# Altium footprint library MPU-9250.PcbLib: 1 footprints
Each footprint in its own frame and in the unit in brackets; x right, y up, seen from the top. Pads: shape width x height; smd on the part's side, far side on the other; paste and mask are expansions set on the pad; w line width, h text height; cw(c..) or ccw(c..) is an arc to the next point about the centre after c.
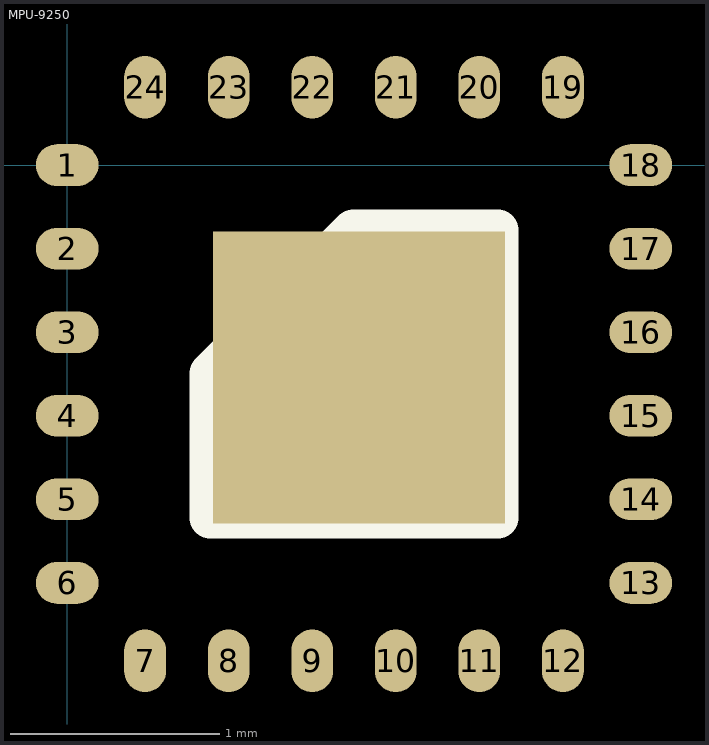
[diagram p0: the footprint, top view; thin cyan lines are the x and y axes]

## MPU-9250 [mm]
pads (25):
  oval 0.3x0.2 smd: 1(0,0) 2(0,-0.4) 3(0,-0.8) 4(0,-1.2) 5(0,-1.6) 6(0,-2) 13(2.746,-2) 14(2.746,-1.6) 15(2.746,-1.2) 16(2.746,-0.8) 17(2.746,-0.4) 18(2.746,0)
  oval 0.2x0.3 smd: 7(0.373,-2.373) 8(0.773,-2.373) 9(1.173,-2.373) 10(1.573,-2.373) 11(1.973,-2.373) 12(2.373,-2.373) 19(2.373,0.373) 20(1.973,0.373) 21(1.573,0.373) 22(1.173,0.373) 23(0.773,0.373) 24(0.373,0.373)
  rect 1.397x1.397 smd: ""(1.397,-1.016)
Top Overlay:
  lines w0.2: 0.685,-1.688 0.685,-0.997 1.37,-0.312 2.061,-0.312 2.061,-1.688 0.685,-1.688